# Altium footprint library ISeniorDesign.PcbLib: 19 footprints (part 1 of 2)
Each footprint in its own frame and in the unit in brackets; x right, y up, seen from the top. Pads: shape width x height; smd on the part's side, far side on the other; paste and mask are expansions set on the pad; w line width, h text height; cw(c..) or ccw(c..) is an arc to the next point about the centre after c.
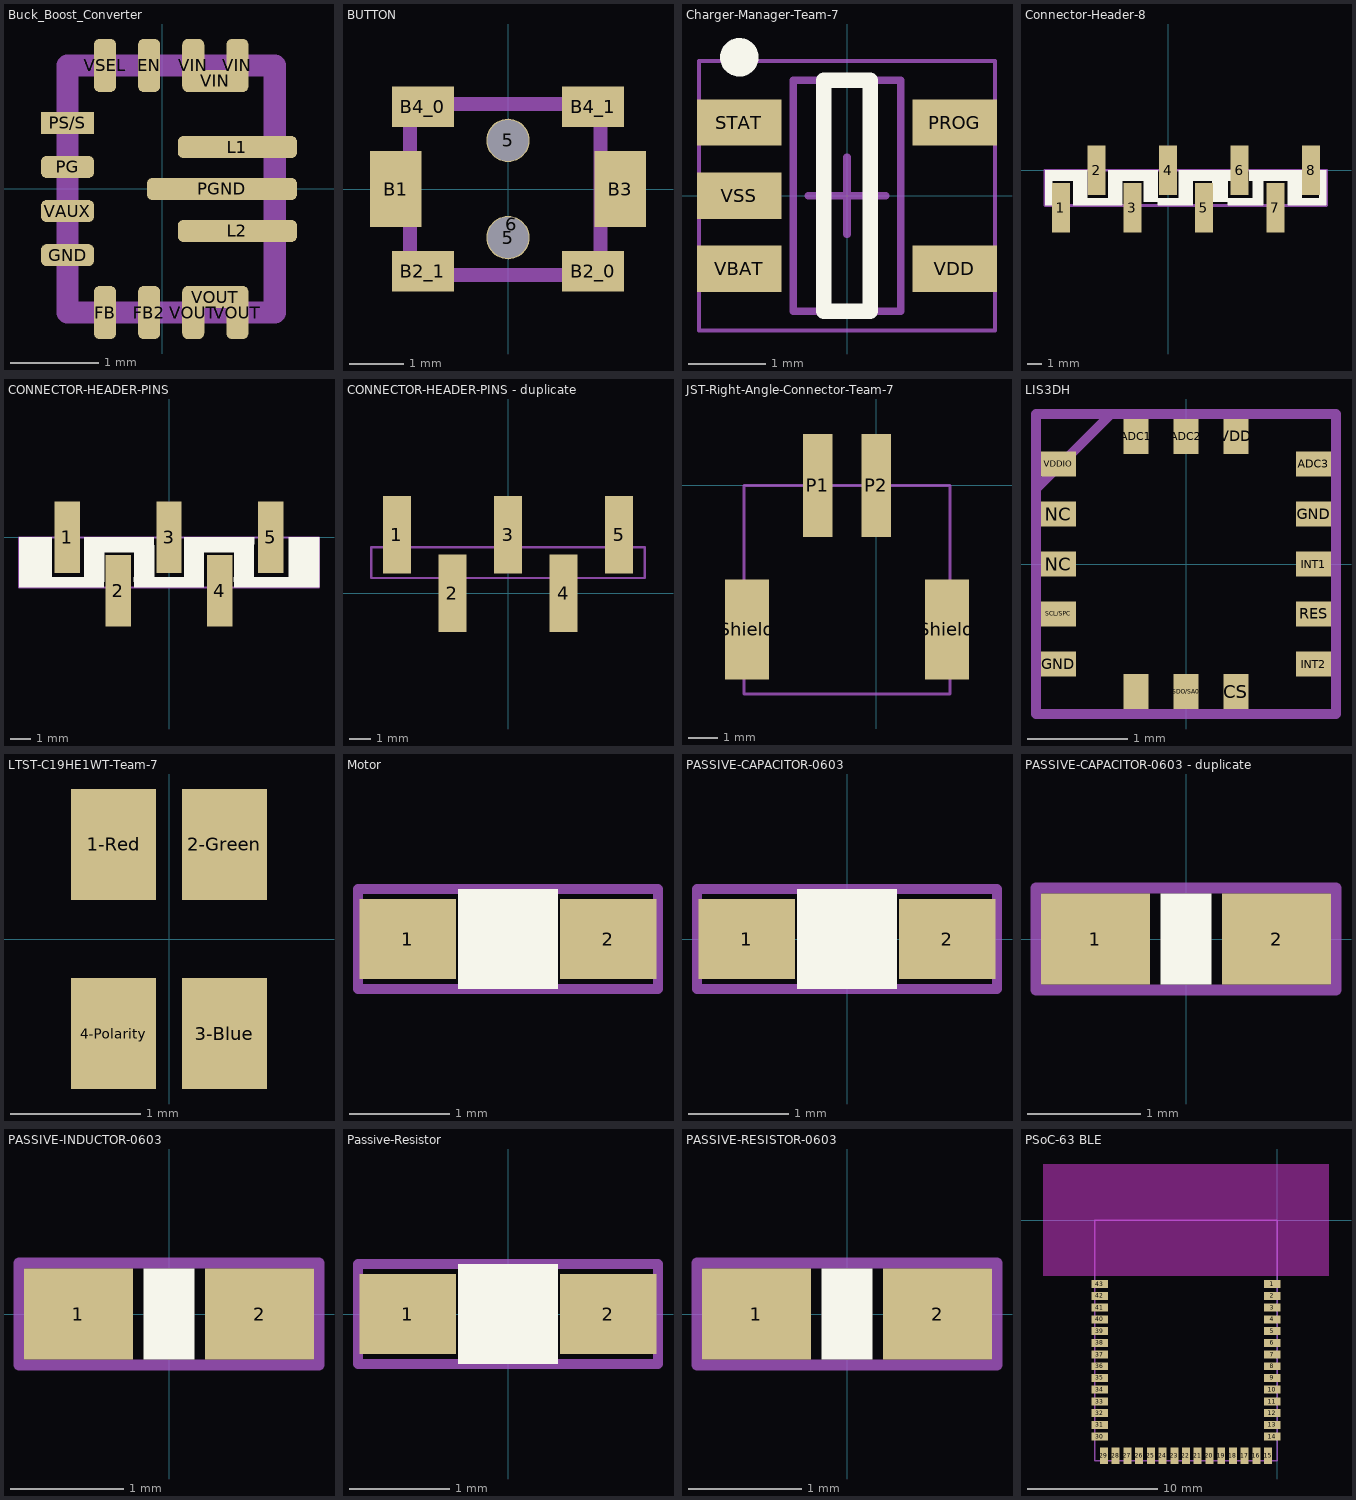
[diagram p0: the footprints below, top view; thin cyan lines are the x and y axes]

## Buck_Boost_Converter [mm] "Buck Boost Converter"
pads (17):
  rrect50% 0.25x0.6 smd: EN(-0.15,1.4) FB(-0.65,-1.4) FB2(-0.15,-1.4) VIN(0.35,1.4) VIN(0.85,1.4) VOUT(0.35,-1.4) VOUT(0.85,-1.4) VSEL(-0.65,1.4)
  rrect50% 0.6x0.25 smd: GND(-1.075,-0.75) PG(-1.075,0.25) VAUX(-1.075,-0.25)
  rrect50% 1.35x0.25 smd: L1(0.85,0.475) L2(0.85,-0.475)
  rrect50% 1.7x0.25 smd: PGND(0.675,0)
  rect 0.6x0.25 smd: PS/S(-1.075,0.75)
  rrect50% 0.75x0.25 smd: VIN(0.6,1.225) VOUT(0.6,-1.225)
Top Assembly:
  lines w0.254: -1.075,-1.4 1.275,-1.4 1.275,1.4 -1.075,1.4 -1.075,-1.4
  text ".Designator" at -2,-0.275 h0.4
3D body: height 0.4, standoff 0, extent -1.075,-1.425 1.275,1.4

## BUTTON [mm]
pads (9):
  round 0.8 hole 0.762 mask+0: 5(0,-0.9) 5(0,0.9)
  round 0.8 on Top Paste: 6(0.07,-0.653)
  rect 0.95x1.4 smd: B1(-2.075,0) B3(2.075,0)
  rect 1.15x0.75 smd: B2_0(1.575,-1.525) B2_1(-1.575,-1.525) B4_0(-1.575,1.525) B4_1(1.575,1.525)
Top Assembly:
  lines w0.254: -1.815,-1.591 1.71,-1.591 1.71,1.571 1.709,1.572 -1.815,1.572 -1.815,-1.591
  text ".Designator" at -3.139,-0.475 h0.75

## Charger-Manager-Team-7 [mm]
height 1.1
pads (5):
  rect 1.1x0.6 smd: PROG(1.4,0.95) STAT(-1.4,0.95) VBAT(-1.4,-0.95) VDD(1.4,-0.95) VSS(-1.4,0)
Top Overlay:
  circle w0.25: c-1.4,1.8 r0.125
  lines w0.2: -0.3,-1.5 -0.3,1.5 0.3,1.5 0.3,-1.5 -0.3,-1.5
3D Bodies:
  lines w0.1: -0.7,-1.5 0.7,-1.5 0.7,1.5 -0.7,1.5 -0.7,-1.5
Mechanical 15:
  lines w0.05: -1.925,-1.75 1.925,-1.75 1.925,1.75 -1.925,1.75 -1.925,-1.75
  lines w0.1: -0.5,0 0.5,0 ; 0,-0.5 0,0.5
Top Assembly:
  text ".Designator" at -2,-0.067 h0.4
3D body: height 1.1, standoff 0.05, extent -0.7,-1.5 0.7,1.5

## Connector-Header-8 [mm]
pads (8):
  rect 1.27x3.54 smd: 1(-7.62,-2.67) 2(-5.08,0) 3(-2.54,-2.67) 4(0,0) 5(2.54,-2.67) 6(5.08,0) 7(7.62,-2.67) 8(10.16,0)
Top Overlay:
  region: 0.75,-2 1.75,-2 1.75,0
  region: 0.75,-2 0.75,0 2,0
  region: -1.75,-2.25 -1.75,-0.75 -0.75,-0.75 -0.75,-2.25
  region: -3.25,-0.75 -0.75,-0.75 -0.75,0 -3.25,0
  region: -5.75,-2 -3.25,-2 -3.25,-2.5 -5.75,-2.5
  region: -5.75,-0.75 -5.75,-2.5 -6.75,-2.5 -6.75,-0.75
  region: -0.75,-2 1.75,-2 1.75,-2.5 -0.75,-2.5
  region: -4.25,-2 -4.25,0 -3.25,0 -3.25,-2
  region: -8.75,-0.75 -5.75,-0.75 -5.75,0 -8.75,0
  region: 4.25,-2.25 4.25,-0.75 3.125,-0.75 3.125,-2.125 3,-2.25
  region: 5.75,-0.75 9.5,-0.75 9.5,0 5.75,0
  region: 1.75,-0.75 4.5,-0.75 4.5,0 1.75,0
  region: 9.5,-2 10.75,-2 10.75,-2.5 9.5,-2.5
  region: 4.25,-2 6.75,-2 6.75,-2.5 4.25,-2.5
  region: 6,-2 6,-0.75 6.75,-0.75 6.75,-2
  region: 8.5,-2.5 8.5,-0.75 9.5,-0.75 9.5,-2.5
  region: 10.75,0 11.25,0 11.25,-2.5 10.75,-2.5
  region: -8.25,-2.5 -8.25,-0.75 -8.75,-0.75 -8.75,-2.5
Top Assembly:
  lines w0.2: -8.75,-2.5 -8.75,0 8.75,0 11.25,0 11.25,-2.5 8.75,-2.5 -8.75,-2.5
  text ".Designator" at -0.15,-1.017 h0.4

## CONNECTOR-HEADER-PINS [mm]
pads (5):
  rect 1.27x3.56 smd: 1(-5.08,0) 2(-2.54,-2.67) 3(0,0) 4(2.54,-2.67) 5(5.08,0)
Top Overlay:
  region: -7.5,0 -5.875,0 -5.875,-2.5 -7.5,-2.5
  region: -6,-2 -3.25,-2 -3.25,-2.5 -6,-2.5
  region: -3.25,-2 -3.25,0 -4.25,0 -4.25,-2
  region: 6,0 7.5,0 7.5,-2.5 6,-2.5
  region: 3.25,-2 6,-2 6,-2.5 3.25,-2.5
  region: -1.75,-2 1.75,-2 1.75,-2.5 -1.75,-2.5
  region: 0.75,-2 0.75,0 1.75,0 1.75,-2
  region: 1.75,0 4.25,0 4.25,-0.75 1.75,-0.75
  region: 3.25,-0.75 4.25,-0.75 4.25,-2 3.25,-2
  region: -0.75,-2 -0.75,-0.75 -1.75,-0.75 -1.75,-2
  region: -3.25,0 -0.75,0 -0.75,-0.75 -3.25,-0.75
Top Assembly:
  lines w0.1: -7.5,-1 -6.5,0 ; -7.5,-2.5 -7.5,0 7.5,0 7.5,-2.5 -7.5,-2.5

## CONNECTOR-HEADER-PINS - duplicate [mm]
pads (5):
  rect 1.27x3.56 smd: 1(-5.08,2.67) 2(-2.54,0) 3(0,2.67) 4(2.54,0) 5(5.08,2.67)
Top Assembly:
  lines w0.1: -6.25,0.7 6.25,0.7 6.25,2.1 -6.25,2.1 -6.25,0.7
  text ".Designator" at -2.125,-0.375 h0.4
3D body: height 1, standoff 0, extent -6.25,0.675 6.25,2.075

## JST-Right-Angle-Connector-Team-7 [mm]
pads (4):
  rect 1x3.5 smd: P1(-2,0) P2(0,0)
  rect 1.5x3.4 smd: Shield(-4.4,-4.9) Shield(2.4,-4.9)
Top Assembly:
  lines w0.1: -4.5,-7.1 -4.5,0 2.5,0 2.5,-7.1 -4.5,-7.1
3D body "SM02B-PASS-TBT-LF--SN---3DModel-STEP-56544.STEP": height 5.7, standoff 0, extent -5.2,-8.1 2.8,1.9

## LIS3DH [mm]
pads (16):
  rect 0.25x0.35 smd: ADC1(-0.5,1.275) ADC2(0,1.275) CS(0.5,-1.275) SDA/SDI/SDO(-0.5,-1.275) SDO/SA0(0,-1.275) VDD(0.5,1.275)
  rect 0.35x0.25 smd: ADC3(1.275,1) GND(-1.275,-1) GND(1.275,0.5) INT1(1.275,0) INT2(1.275,-1) NC(-1.275,0) NC(-1.275,0.5) RES(1.275,-0.5) SCL/SPC(-1.275,-0.5) VDDIO(-1.275,1)
Top Assembly:
  lines w0.1: -1.5,0.75 -0.75,1.5 ; -1.5,-1.5 -1.5,1.5 1.5,1.5 1.5,-1.5 -1.5,-1.5
  text ".Designator" at -0.9,-0.017 h0.4
3D body: height 0.25, standoff 0, extent -1.5,-1.5 1.5,1.5

## LTST-C19HE1WT-Team-7 [mm]
pads (4):
  rect 0.65x0.85 smd: 1-Red(-0.425,0.725) 2-Green(0.425,0.725) 3-Blue(0.425,-0.725) 4-Polarity(-0.425,-0.725)
3D body "LTST-C19HE1WT--3DModel-STEP-56544.STEP": height 0.35, standoff 0, extent -0.8,-0.8 0.8,0.8

## Motor [mm]
pads (2):
  rect 0.965x0.8 smd: 1(-1263,252.8) 2(-1261,252.8)
Top Overlay:
  region: -1262.5,253.3 -1262.5,252.3 -1261.5,252.3 -1261.5,253.3
Top Assembly:
  lines w0.1: -1263.5,252.3 -1260.5,252.3 -1260.5,253.3 -1263.5,253.3 -1263.5,252.3
  text ".Designator" at -1262.9,253.033 h0.4

## PASSIVE-CAPACITOR-0603 [mm]
pads (2):
  rect 0.965x0.8 smd: 1(-1,0) 2(1,0)
Top Overlay:
  region: -0.5,0.5 0.5,0.5 0.5,-0.5 -0.5,-0.5
Top Assembly:
  lines w0.1: -1.5,-0.5 -1.5,0.5 1.5,0.5 1.5,-0.5 -1.5,-0.5
  text ".Designator" at -0.9,-0.3 h0.3

## PASSIVE-CAPACITOR-0603 - duplicate [mm]
pads (2):
  rect 0.965x0.8 smd: 1(-0.8,0) 2(0.8,0)
Top Overlay:
  region: -0.225,0.4 0.225,0.4 0.225,-0.4 -0.225,-0.4
Top Assembly:
  lines w0.1: -1.325,-0.45 1.325,-0.45 1.325,0.45 -1.325,0.45 -1.325,-0.45
  text ".Designator" at -1,-0.25 h0.4
3D body: height 0.4, standoff 0, extent -0.825,-0.4 0.8,0.4

## PASSIVE-INDUCTOR-0603 [mm] "Inductor"
pads (2):
  rect 0.965x0.8 smd: 1(-0.8,0) 2(0.8,0)
Top Overlay:
  region: -0.225,0.4 0.225,0.4 0.225,-0.4 -0.225,-0.4
Top Assembly:
  lines w0.1: -1.325,-0.45 -1.325,0.45 1.325,0.45 1.325,-0.45 -1.325,-0.45
  text ".Designator" at -1.975,-0.975 h0.4
3D body: height 0.4, standoff 0, extent -0.825,-0.4 0.8,0.4

## Passive-Resistor [mm]
pads (2):
  rect 0.965x0.8 smd: 1(-1,0) 2(1,0)
Top Overlay:
  region: -0.5,0.5 -0.5,-0.5 0.5,-0.5 0.5,0.5
Top Assembly:
  lines w0.1: -1.5,-0.5 1.5,-0.5 1.5,0.5 -1.5,0.5 -1.5,-0.5
  text ".Designator" at -0.9,0.233 h0.4

## PASSIVE-RESISTOR-0603 [mm]
pads (2):
  rect 0.965x0.8 smd: 1(-0.8,0) 2(0.8,0)
Top Overlay:
  region: -0.225,0.4 0.225,0.4 0.225,-0.4 -0.225,-0.4
Top Assembly:
  lines w0.1: -1.325,-0.45 -1.325,0.45 1.325,0.45 1.325,-0.45 -1.325,-0.45
  text ".Designator" at -1,-0.25 h0.4
3D body: height 0.4, standoff 0, extent -0.825,-0.4 0.8,0.4

## PSoC-63 BLE [mm]
pads (43):
  rect 1.27x0.61 smd: 1(-0.38,-4.93) 2(-0.38,-5.83) 3(-0.38,-6.73) 4(-0.38,-7.63) 5(-0.38,-8.54) 6(-0.38,-9.44) 7(-0.38,-10.34) 8(-0.38,-11.24) 9(-0.38,-12.14) 10(-0.38,-13.04) 11(-0.38,-13.95) 12(-0.38,-14.85) 13(-0.38,-15.75) 14(-0.38,-16.65) 30(-13.62,-16.65) 31(-13.62,-15.75) 32(-13.62,-14.85) 33(-13.62,-13.95) 34(-13.62,-13.04) 35(-13.62,-12.14) 36(-13.62,-11.24) 37(-13.62,-10.34) 38(-13.62,-9.44) 39(-13.62,-8.54) 40(-13.62,-7.63) 41(-13.62,-6.73) 42(-13.62,-5.83) 43(-13.62,-4.93)
  rect 0.61x1.27 smd: 15(-0.69,-18.12) 16(-1.59,-18.12) 17(-2.49,-18.12) 18(-3.39,-18.12) 19(-4.29,-18.12) 20(-5.2,-18.12) 21(-6.1,-18.12) 22(-7,-18.12) 23(-7.9,-18.12) 24(-8.8,-18.12) 25(-9.7,-18.12) 26(-10.61,-18.12) 27(-11.51,-18.12) 28(-12.41,-18.12) 29(-13.31,-18.12)
Top Layer keep-out:
  rectangle: -18,-4.31 4,4.31
Board Outline:
  lines w0.1: -14,-18.5 -14,0 0,0 0,-18.5 -14,-18.5
Top Assembly:
  text ".Designator" at -9.4,-10.1 h0.5
3D body: height 1.2, standoff 0, extent -14,-18.5 0,-4.299
3D body: height 0.8, standoff 0, extent -14,-18.5 0,0